# Altium schematic symbol library ECAR_LIBARY.SchLib: 24 symbols
Pins are listed as number, name and electrical type; pins without a type are passive.

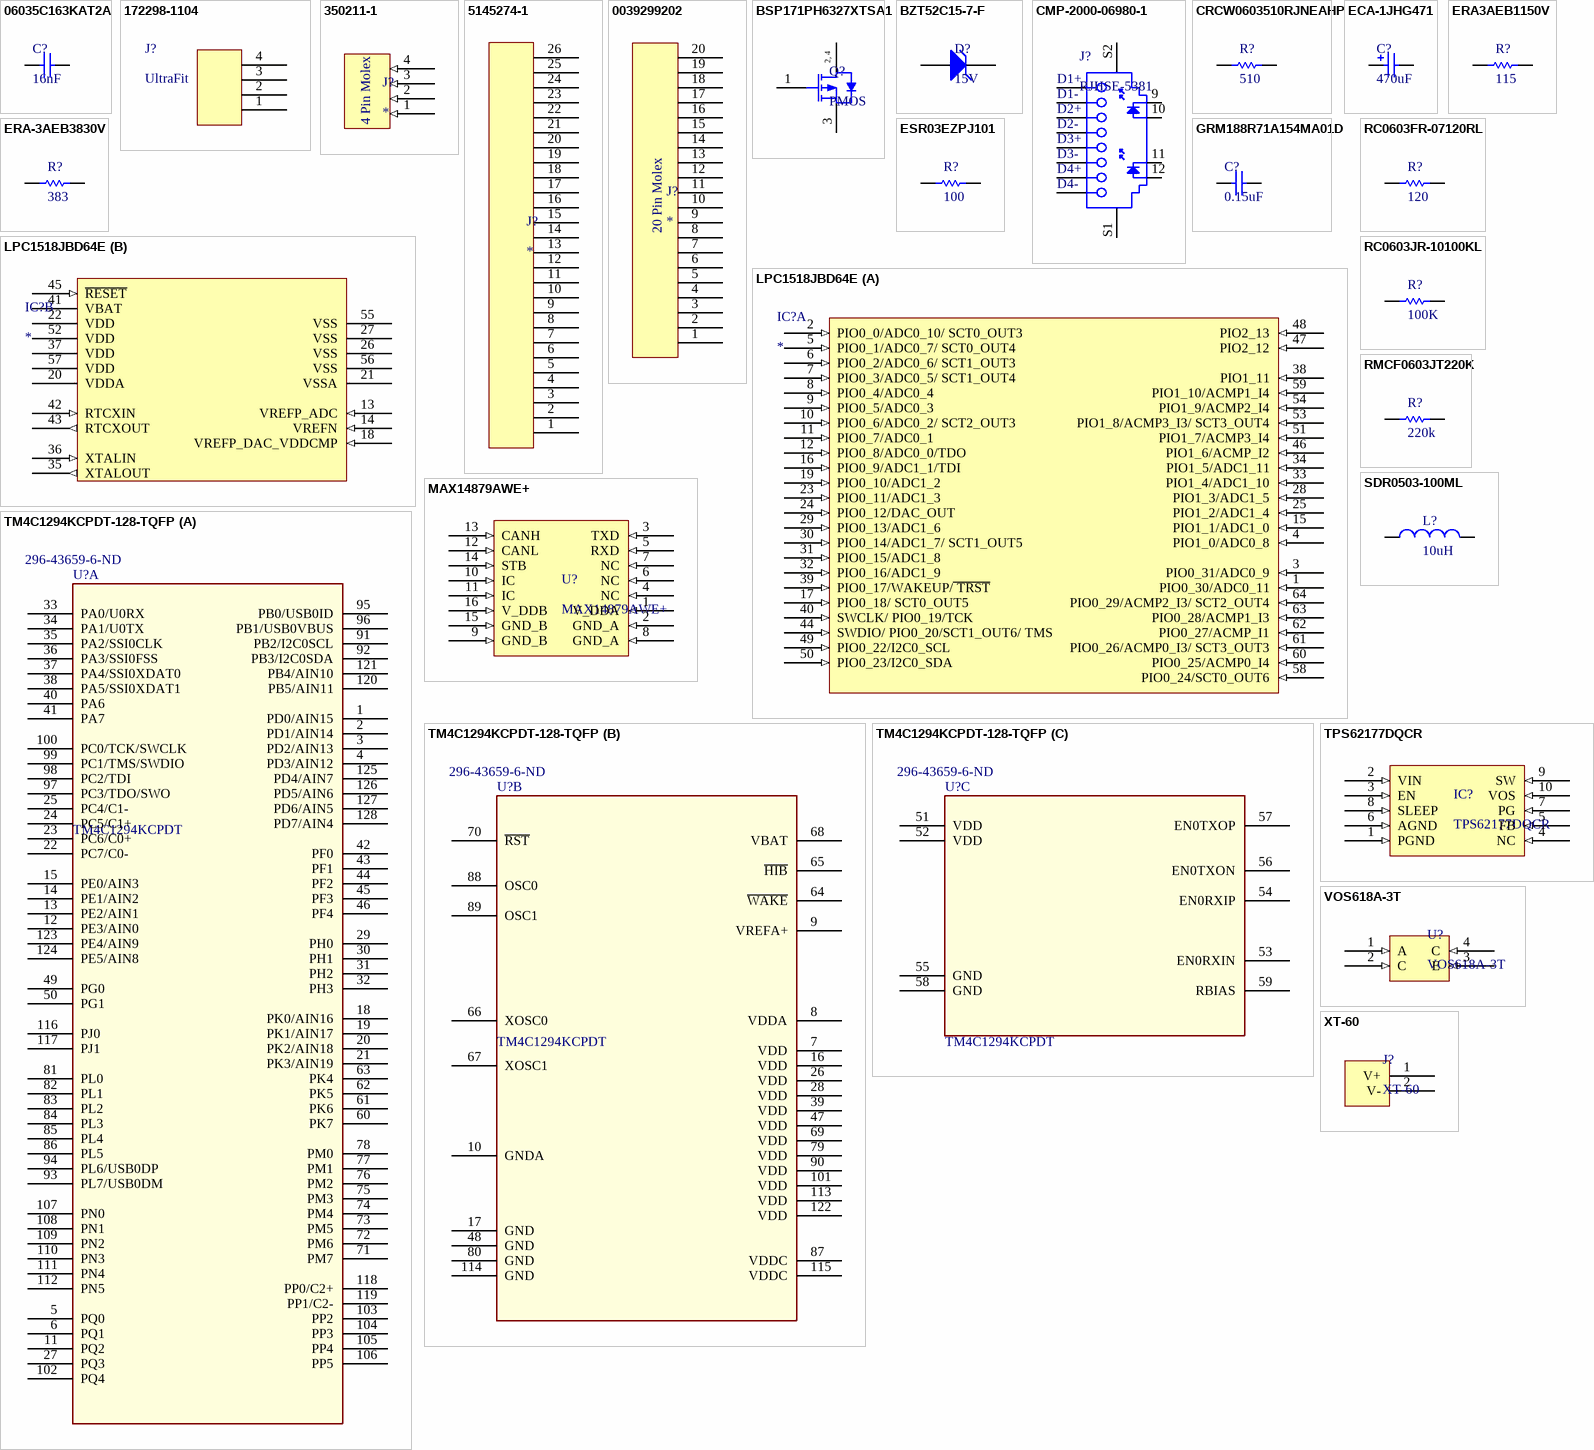
[diagram p0: symbols 06035C163KAT2A to XT-60]

## 06035C163KAT2A
designator C?, comment 16nF
Multilayer Ceramic Capacitors MLCC - SMD/SMT 50volts 0.016uF 10% X7R; Manufacturer: Kyocera AVX; Manufacturer Part Number: 06035C163KAT2A; Voltage Rating: 50V; Dissipation Factor: 2.5%; Supplier 1: Digi-Key; Stock 1: 10610; Pricing 1: 1=0.33, 10=0.224, 100=0.1271, 500=0.0897, 1000=0.07849 (USD); Mount: Surface Mount; Case/Package: 0603; Number of Pins: 2; Case Code (Metric): 1608; Case Code (Imperial): 0603; Min Operating Temperature: -55°C; Max Operating Temperature: 125°C; Package Quantity: 4000; Capacitance: 16nF; Tolerance: 10%; Packaging: Tape and Reel; Voltage Rating (DC): 50V; Dielectric: X7R; Termination: SMD/SMT; Length: 1.6mm; Width: 0.032inch; Thickness: 0.035inch; Depth: 0.81mm; Radiation Hardening: No; ComponentLink1URL: https://datasheet.ciiva.com/205/cx7r-205833.pdf; ComponentLink1Description: https://datasheet.ciiva.com/205/cx7r-205833.pdf; ComponentLink2URL: https://datasheet.ciiva.com/5418/cx7r-218113-5418475.pdf; ComponentLink2Description: https://datasheet.ciiva.com/5418/cx7r-218113-5418475.pdf; Supplier 2: Digi-Key
signal-integrity model Model Name (Model Description)
footprint 0603 CAP Medium
pins: 1, 2

## 172298-1104
designator J?, comment UltraFit
Conn; Rect; W-to-B; Header; Vert; 3.50mm Pitch; 2-Row; 4 Pos; Ultra-Fit; Tin Plate; Black; Manufacturer: Molex; Manufacturer Part Number: 172298-1104; Number of Positions: 4; Gender: Male; Connector Type: Male Pin; Pitch: 0.138inch; Row Spacing: 0.181inch; Supplier 1: Digi-Key; Stock 1: 3051; Pricing 1: 1=0.76, 10=0.708, 100=0.543, 500=0.4722, 1000=0.38957, 5000=0.34235, 10000=0.31874 (USD); Mount: Through Hole; Number of Pins: 4; Contact Plating: Nickel,Tin; Colour: Black; Contact Material: Copper Alloy; Packaging: Tray; Number of Rows: 2; Termination: Kinked Pin; Fastening Type: Latch; Number of Circuits: 4; Orientation: Vertical; Number of Contacts: 4; REACH SVHC: Unknown; ComponentLink1URL: http://www.alliedelec.com/images/products/datasheets/bm/MOLEX/70617668.pdf; ComponentLink1Description: http://www.alliedelec.com/images/products/datasheets/bm/MOLEX/70617668.pdf; ComponentLink2URL: https://www.molex.com/pdm_docs/sd/1722981104_sd.pdf; ComponentLink2Description: https://www.molex.com/pdm_docs/sd/1722981104_sd.pdf; ComponentLink3URL: http://www.farnell.com/datasheets/1944206.pdf; ComponentLink3Description: http://www.farnell.com/datasheets/1944206.pdf; ComponentLink4URL: http://www.farnell.com/datasheets/1955765.pdf; ComponentLink4Description: http://www.farnell.com/datasheets/1955765.pdf
footprint 1722981104
pins: 1, 2, 3, 4

## 350211-1
designator J?
CONN HEADER 4 POS TIN PCB; Manufacturer: TE Connectivity; Manufacturer Part Number: 350211-1; Current Rating: 13A; Voltage Rating: 250V; Gender: Male; Connector Type: Pin; Number of Poles: 4; Contact Resistance: 4mR; Mating Cycles: 50; Number of Ports: 1; Insulation Resistance: 500MR; Circuit Application: Power; Connector System: Wire-to-Board; Contact Retention: No (Without); Plating Thickness: 2.54um; Mating Alignment: Yes (With); PCB Mounting Orientation: Vertical; VDE Tested: No; Contact Current Rating: 12A; Pitch: 5.08mm; PCB Thickness: 1.57mm; Hole Diameter: 1.8mm; Approvals: CSA; Supplier 1: Digi-Key; Stock 1: 2882; Pricing 1: 1=1.12, 10=0.982, 100=0.8475, 500=0.69344, 1000=0.61638, 5000=0.53934, 10000=0.51237 (USD); Mount: Through Hole,PCB; Contact Plating: Tin; Contact Material: Bronze,Tin; Colour: Natural,Clear; Material: Nylon; Housing Material: Nylon; Number of Terminals: 4; Housing Colour: Natural; Min Operating Temperature: -40°C; Max Operating Temperature: 221°C; Packaging: Bag; Termination: Solder; Package Quantity: 100; Contact Gender: Male; Number of Rows: 1; Voltage Rating (AC): 250V; Max Voltage Rating (AC): 250V; Number of Positions: 4; Number of Contacts: 4; Number of Circuits: 4; Orientation: Straight; Mating Retention: Yes (With); Number of Power Positions: 4; Sealable: No (Without); Length: 25.4mm; Height: 8.26mm; Lead Pitch: 5.08mm; Width: 9.53mm; Contact Mating Length: 0.18inch; Depth: 9.65mm; Radiation Hardening: No; REACH SVHC: No SVHC; Lead Free: Lead Free; ELV: Compliant; Flammability Rating: UL94 V-2; ComponentLink1URL: https://datasheet.ciiva.com/1442/1698836-1442676.pdf; ComponentLink1Description: https://datasheet.ciiva.com/1442/1698836-1442676.pdf; ComponentLink2URL: https://datasheet.ciiva.com/14154/cs-82181-soft-shell-eng-14154757.pdf; ComponentLink2Description: https://datasheet.ciiva.com/14154/cs-82181-soft-shell-eng-14154757.pdf; ComponentLink3URL: https://datasheet.ciiva.com/19454/421358-19454101.pdf; ComponentLink3Description: https://datasheet.ciiva.com/19454/421358-19454101.pdf; ComponentLink4URL: https://datasheet.ciiva.com/15173/getdatasheetpartid-92383-15173751.pdf; ComponentLink4Description: https://datasheet.ciiva.com/15173/getdatasheetpartid-92383-15173751.pdf; ComponentLink5URL: https://datasheet.ciiva.com/3126/eng-cs-82181-softshell-standard-density-0508-3126153.pdf; ComponentLink5Description: https://datasheet.ciiva.com/3126/eng-cs-82181-softshell-standard-density-0508-3126153.pdf; ComponentLink6URL: https://datasheet.ciiva.com/11755/0900766b800c5727-11755181.pdf; ComponentLink6Description: https://datasheet.ciiva.com/11755/0900766b800c5727-11755181.pdf; ComponentLink7URL: https://datasheet.ciiva.com/25908/eng-cs-82181-softshell-standard-density-0508-25908477.pdf; ComponentLink7Description: https://datasheet.ciiva.com/25908/eng-cs-82181-softshell-standard-density-0508-25908477.pdf; ComponentLink8URL: https://datasheet.ciiva.com/30161/eng-cs-82181-softshell-standard-density-0508-30161246.pdf; ComponentLink8Description: https://datasheet.ciiva.com/30161/eng-cs-82181-softshell-standard-density-0508-30161246.pdf
footprint 350211-1
pins: 1 (in), 2 (in), 3 (in), 4 (in)
text: 4 Pin Molex

## 5145274-1
designator J?
Standard Card Edge Connectors CONN SEC II 13 POS 100C/L; Manufacturer: TE Connectivity; Manufacturer Part Number: 5145274-1; Underplate Material: Nickel; Number of Contacts: 26; Gender: Female; Connector Type: Socket; Circuit Application: Power; Connector System: Board-to-Board; Contact Retention: No (Without); Mating Alignment: Yes (With); PCB Mount Retention: With; PCB Mounting Orientation: Vertical; Contact Current Rating: 3A; Contact Resistance: 10mR; Max Voltage Rating (AC): 1kV; Pitch: 2.54mm; Row Spacing: 4.85mm; Supplier 1: Digi-Key; Stock 1: 1146; Pricing 1: 1=2.51, 10=2.279, 25=2.1392, 50=2.0464, 100=1.9533, 250=1.76728, 500=1.62776, 1000=1.39523, 2500=1.30221 (USD); Mount: Through Hole; Contact Plating: Tin,Gold; Contact Material: Bronze; Colour: Black; Housing Colour: Black; Insulation Material: Glass; Housing Material: Polyester; Min Operating Temperature: -55°C; Max Operating Temperature: 85°C; Number of Rows: 2; Termination: Solder; Package Quantity: 252; Packaging: Box; Number of Positions: 26; Orientation: Straight; Mating Retention: No (Without); Number of Power Positions: 26; PCB Mount Alignment: No (Without); Selectively Loaded: No (Without); Height: 15.24mm; ELV: Compliant; Flammability Rating: UL94 V-0; Lead Free: Lead Free; ComponentLink1URL: https://datasheet.ciiva.com/30109/5145274-1-30109552.pdf; ComponentLink1Description: https://datasheet.ciiva.com/30109/5145274-1-30109552.pdf; ComponentLink2URL: https://datasheet.ciiva.com/8066/1652760-8066969.pdf; ComponentLink2Description: https://datasheet.ciiva.com/8066/1652760-8066969.pdf; ComponentLink3URL: https://datasheet.ciiva.com/416/eng-cd-5145274-b-416554.pdf; ComponentLink3Description: https://datasheet.ciiva.com/416/eng-cd-5145274-b-416554.pdf
footprint 5145274-1
footprint 5145274-1 EDGE (PCB EDGE Version of 5145274-1)
pins: 1, 2, 3, 4, 5, 6, 7, 8, 9, 10, 11, 12, 13, 14, 15, 16, 17, 18, 19, 20, 21, 22, 23, 24, 25, 26

## 0039299202
designator J?
Conn Power HDR 20 POS 4.2mm Solder ST Thru-Hole 20 Terminal 1 Port Mini-Fit Jr™ Tray; Manufacturer: Molex; Manufacturer Part Number: 0039299202; Contact Resistance: 10mR; Number of Positions: 20; Max Voltage Rating (AC): 600V; Gender: Male; Number of Ports: 1; Connector Type: Male Pin; Row Spacing: 0.165inch; Supplier 1: Digi-Key; Stock 1: 2975; Pricing 1: 1=1.71, 10=1.548, 100=1.3268, 500=1.10566, 1000=0.9477, 5000=0.84029, 10000=0.82134 (USD); Mount: Through Hole; Contact Material: Brass; Contact Plating: Nickel,Tin; Colour: Natural; Housing Colour: Natural; Housing Material: Nylon; Number of Terminals: 20; Min Operating Temperature: -40°C; Max Operating Temperature: 105°C; Packaging: Tray; Number of Rows: 2; Termination: Solder; Number of Contacts: 20; Orientation: Straight; Fastening Type: Ramp; Pitch: 4.2mm; Depth: 11mm; ComponentLink1URL: https://datasheet.ciiva.com/6815/039299163-sd-6815664.pdf; ComponentLink1Description: https://datasheet.ciiva.com/6815/039299163-sd-6815664.pdf; ComponentLink2URL: https://datasheet.ciiva.com/26921/getdatasheetpartid-176544-26921974.pdf; ComponentLink2Description: https://datasheet.ciiva.com/26921/getdatasheetpartid-176544-26921974.pdf
pins: 1, 2, 3, 4, 5, 6, 7, 8, 9, 10, 11, 12, 13, 14, 15, 16, 17, 18, 19, 20
text: 20 Pin Molex

## BSP171PH6327XTSA1
designator Q?, comment PMOS
Trans MOSFET P-CH 60V 1.9A Automotive 4-Pin(3+Tab) SOT-223 T/R; Manufacturer: Infineon; Manufacturer Part Number: BSP171PH6327XTSA1; Rise Time: 25ns; Gate to Source Voltage (Vgs): 20V; Max Power Dissipation: 1.8W; Turn-Off Delay Time: 208ns; Input Capacitance: 460pF; Fall Time: 87ns; Drain to Source Voltage (Vdss): -60V; Rds On Max: 300mR; Number of Elements: 1; Element Configuration: Single; Supplier 1: Digi-Key; Stock 1: 10497; Pricing 1: 1=1.01, 10=0.881, 100=0.6796, 500=0.50342 (USD); Mount: Surface Mount; Case/Package: SOT-223; Number of Pins: 4; Contact Plating: Tin; Min Operating Temperature: -55°C; Max Operating Temperature: 150°C; Continuous Drain Current (ID): 1.9A; Packaging: Tape and Reel; Power Dissipation: 1.8W; Package Quantity: 1000; Drain to Source Resistance: 300mR; Drain to Source Breakdown Voltage: 60V; Max Dual Supply Voltage: -60V; Radiation Hardening: No; Lead Free: Lead Free; Halogen Free: Halogen Free; ComponentLink1URL: https://datasheet.ciiva.com/26924/getdatasheetpartid-767187-26924766.pdf; ComponentLink1Description: https://datasheet.ciiva.com/26924/getdatasheetpartid-767187-26924766.pdf
simulation model BSP171P_L0 (Model Description)
footprint SOT230P700X170-4N (SOT223, 4-Leads, Body 6.50x7.00mm (avg), Pitch 2.30mm, IPC Medium Density)
pins: 1 GATE, 2 DRAIN, 3 SOURCE, 4 DRAIN
text: 2, 4

## BZT52C15-7-F
designator D?, comment 15V
Diode Zener Single 15V 6% 370mW 2-Pin SOD-123 T/R; Manufacturer: Diodes; Manufacturer Part Number: BZT52C15-7-F; Max Power Dissipation: 500mW; Max Reverse Leakage Current: 100nA; Forward Voltage: 900mV; Impedance: 30R; Zener Current: 5mA; Output Current: 50mA; ESD Protection: No; Supplier 1: Digi-Key; Stock 1: 216369; Pricing 1: 1=0.24, 10=0.218, 100=0.1186, 500=0.07296, 1000=0.04975 (USD); Mount: Surface Mount; Number of Pins: 2; Weight: 0.000353oz; Contact Plating: Tin,Matte; Min Operating Temperature: -65°C; Max Operating Temperature: 150°C; Zener Voltage: 15V; Element Configuration: Single; Packaging: Tape and Reel; Package Quantity: 3000; Tolerance: 6%; Power Dissipation: 500mW; Voltage Tolerance: 6%; Working Voltage: 15V; Peak Reverse Current: 100nA; Test Current: 5mA; Termination: SMD/SMT; Power Rating: 500mW; Voltage Rating (DC): 15V; Length: 2.85mm; Height: 1.35mm; Width: 1.7mm; Radiation Hardening: No; REACH SVHC: No SVHC; Lead Free: Lead Free; ComponentLink1URL: https://datasheet.ciiva.com/4734/ds18004-73542-4734071.pdf; ComponentLink1Description: https://datasheet.ciiva.com/4734/ds18004-73542-4734071.pdf; ComponentLink2URL: https://datasheet.ciiva.com/15142/getdatasheetpartid-110099-15142730.pdf; ComponentLink2Description: https://datasheet.ciiva.com/15142/getdatasheetpartid-110099-15142730.pdf; ComponentLink3URL: https://datasheet.ciiva.com/22713/1670962-22713962.pdf; ComponentLink3Description: https://datasheet.ciiva.com/22713/1670962-22713962.pdf
simulation model DI_BZT52C15 (SYM=HZEN)
footprint SODFL370X135-2M (SODFL, 2-Leads, Body 1.55x3.70mm, IPC Low Density)
signal-integrity model Model Name (Model Description)
pins: 1 A, 2 K

## CMP-2000-06980-1
designator J?, comment RJHSE-5381
High Speed RJ45, Modular Jack, 8 Position, 8 Contacts, Shielded, with LEDs, -55 to 85 degC,12-Pin THD, RoHS, Tray; Manufacturer: Amphenol; Number of Positions/Contacts: 8p8c(RJ45,Ethernet); Number of Ports: 1; Catalog Drawings: RJ45SeriesRightAngle; PCN Design/Specification: MultipleSeriesCopper29/Jan/2009RJHSEShieldMaterial30/Jun/2015; Other Names: RJHSE5381; Online Catalog: RJHSESeries; Featured Product: ModularJacksProductSolutions; Tab Direction: Up; Shielding: Shielded,EMIFinger; LED Color: Yellow-Green; 3D Model: RJHSE538x.stpRJHSE538x.igs; Category: Connectors,Interconnects; Termination: Solder; Housing Material: Thermoplastic; Mounting Type: ThroughHole; Family: ModularConnectors-Jacks; Orientation: 90°Angle(Right); Features: BoardLock; Contact Material: PhosphorBronze; Mounting Technology: ThroughHole; Number of Rows: 1; Standard Package: 120; Ratings: -; Operating Temperature: -55°C~85°C; Series: RJHSE; Contact Finish: Gold; Package Reference: RJHSE-5381; Ingress Protection: -; Package Description: 12-Pin Through Hole Device, Body 16.51 x 15.75 mm; Contact Finish Thickness: 50µin(1.27µm); Datasheet URL: https://datasheet.ciiva.com/16481/rjhse538x-16481714.pdf; Datasheet Version: Rev. K, 04/2014; Connector Type: Jack; Manufacturer URL: http://www.amphenol.com/; Packaging: Tray
footprint AMPH-RJHSE-5381_V (THD, 12-Leads, Body 16.51x15.75mm)
pins: 1 TD+, 2 TCT, 3 TD-, 4 NC, 5 RD+, 6 RCT, 7 RD-, 8 GND, 9, 10, 11, 12, S1, S2
text: D1+; D1-; D2+; D2-; D3+; D3-; D4+; D4-

## CRCW0603510RJNEAHP
designator R?, comment 510
RES SMD 510 OHM 5% 1/4W 0603; Manufacturer: Vishay Dale; Manufacturer Part Number: CRCW0603510RJNEAHP; Resistance: 510R; Power Rating: 250mW; Temperature Coefficient: 200ppm/°C; Supplier 1: Digi-Key; Stock 1: 9727; Pricing 1: 1=0.17, 10=0.142, 100=0.0557, 1000=0.0233, 2500=0.02136 (USD); Mount: Surface Mount; Case/Package: 0603; Case Code (Metric): 1608; Case Code (Imperial): 0603; Contact Plating: Nickel,Tin; Min Operating Temperature: -55°C; Max Operating Temperature: 155°C; Tolerance: 5%; Packaging: Tape and Reel; Package Quantity: 5000; Composition: Thick Film; Number of Terminations: 2; Max Power Dissipation: 250mW; Length: 0.063inch; Height: 0.022inch; Width: 0.033inch; Lead Free: Lead Free; ComponentLink1URL: https://datasheet.ciiva.com/48524/crcwhpe3-48524633.pdf; ComponentLink1Description: https://datasheet.ciiva.com/48524/crcwhpe3-48524633.pdf; ComponentLink2URL: https://datasheet.ciiva.com/2575/crcwhpe3-2575517.pdf; ComponentLink2Description: https://datasheet.ciiva.com/2575/crcwhpe3-2575517.pdf
footprint RES 0603 MEDIUM (Chip Resistor, 2-Leads, Body 1.60x0.80mm, IPC Medium Density)
pins: 1, 2

## ECA-1JHG471
designator C?, comment 470uF
Cap Aluminum Lytic 470uF 63V 20% (12.5 X 20mm) Radial 5mm 640mA 2000h 105C Bulk; Manufacturer: Panasonic; Manufacturer Part Number: ECA-1JHG471; Life (Hours): 2000Hour; Lead/Base Style: Straight; Polarity: Polar; Leakage Current: 3uA; Dissipation Factor: 0.1%; Lead Diameter: 0.6mm; Supplier 1: Digi-Key; Stock 1: 12555; Pricing 1: 1=0.88, 10=0.67, 100=0.4792, 500=0.371, 1000=0.31948, 2500=0.29887, 5000=0.28341 (USD); Mount: Through Hole,PCB; Case/Package: Radial; Contact Plating: Tin; Min Operating Temperature: -55°C; Max Operating Temperature: 105°C; Capacitance: 470uF; Tolerance: 20%; Ripple Current: 640mA; Termination: Radial; Voltage Rating (DC): 63V; Packaging: Bulk; Package Quantity: 200; Voltage Rating: 63V; Voltage: 63V; Diameter: 12.5mm; Length: 20mm; Height: 20mm; Lead Pitch: 5mm; Height - Seated (Max): 0.866inch; Radiation Hardening: No; REACH SVHC: No SVHC; ComponentLink1URL: https://datasheet.ciiva.com/14590/70067776-14590006.pdf; ComponentLink1Description: https://datasheet.ciiva.com/14590/70067776-14590006.pdf; ComponentLink2URL: https://datasheet.ciiva.com/17356/aba0000ce26-17356313.pdf; ComponentLink2Description: https://datasheet.ciiva.com/17356/aba0000ce26-17356313.pdf; ComponentLink3URL: https://datasheet.ciiva.com/48521/radial-nhg-eng-tds-48521993.pdf; ComponentLink3Description: https://datasheet.ciiva.com/48521/radial-nhg-eng-tds-48521993.pdf; ComponentLink4URL: https://datasheet.ciiva.com/30116/8aba0000ce26-30116426.pdf; ComponentLink4Description: https://datasheet.ciiva.com/30116/8aba0000ce26-30116426.pdf; ComponentLink5URL: https://datasheet.ciiva.com/2984/aba0000ce26-2984364.pdf; ComponentLink5Description: https://datasheet.ciiva.com/2984/aba0000ce26-2984364.pdf; ComponentLink6URL: https://datasheet.ciiva.com/11783/0900766b800301b8-11783820.pdf; ComponentLink6Description: https://datasheet.ciiva.com/11783/0900766b800301b8-11783820.pdf; ComponentLink7URL: https://datasheet.ciiva.com/43485/1504317-43485276.pdf; ComponentLink7Description: https://datasheet.ciiva.com/43485/1504317-43485276.pdf
simulation model Model Name (Model Description)
signal-integrity model Model Name (Model Description)
footprint ECA1JHG471 (1)
pins: 1, 2

## ERA3AEB1150V
designator R?, comment 115
RESISTOR, 115R, 0603, 0.1%, 0.1W; Manufacturer: Panasonic; Manufacturer Part Number: ERA3AEB1150V; Temperature Coefficient: 25ppm/°C; Power Rating: 100mW; Voltage Rating: 75V; Supplier 1: Digi-Key; Stock 1: 9304; Pricing 1: 1=0.35, 10=0.3, 100=0.1172, 1000=0.04906, 2500=0.04498 (USD); Mount: Surface Mount; Case/Package: 0603; Number of Pins: 2; Contact Plating: Tin; Case Code (Imperial): 0603; Case Code (Metric): 1608; Min Operating Temperature: -55°C; Max Operating Temperature: 155°C; Resistance: 115R; Tolerance: 0.1%; Composition: Metal Film,Thin Film; Package Quantity: 1; Packaging: Tape and Reel; Number of Terminations: 2; Military Standard: Not; Max Power Dissipation: 100mW; Voltage Rating (DC): 75V; Length: 1.6mm; Height: 0.45mm; Width: 0.8mm; Depth: 0.8mm; Radiation Hardening: No; Lead Free: Lead Free; ComponentLink1URL: https://datasheet.ciiva.com/24023/aoa0000ce26-197354-24023398.pdf; ComponentLink1Description: https://datasheet.ciiva.com/24023/aoa0000ce26-197354-24023398.pdf; ComponentLink2URL: https://datasheet.ciiva.com/5734/485442-5734535.pdf; ComponentLink2Description: https://datasheet.ciiva.com/5734/485442-5734535.pdf; ComponentLink3URL: https://datasheet.ciiva.com/9186/aoa0000ce26-9186283.pdf; ComponentLink3Description: https://datasheet.ciiva.com/9186/aoa0000ce26-9186283.pdf; ComponentLink4URL: https://datasheet.ciiva.com/11810/0900766b80eb1d8c-11810204.pdf; ComponentLink4Description: https://datasheet.ciiva.com/11810/0900766b80eb1d8c-11810204.pdf; ComponentLink5URL: https://datasheet.ciiva.com/30216/54aoa0000ce26-30216556.pdf; ComponentLink5Description: https://datasheet.ciiva.com/30216/54aoa0000ce26-30216556.pdf; ComponentLink6URL: https://datasheet.ciiva.com/5998/485442-5998765.pdf; ComponentLink6Description: https://datasheet.ciiva.com/5998/485442-5998765.pdf; ComponentLink7URL: https://datasheet.ciiva.com/7676/485442-7676845.pdf; ComponentLink7Description: https://datasheet.ciiva.com/7676/485442-7676845.pdf; ComponentLink8URL: https://datasheet.ciiva.com/17207/aoa0000ce26-17207853.pdf; ComponentLink8Description: https://datasheet.ciiva.com/17207/aoa0000ce26-17207853.pdf; ComponentLink9URL: https://datasheet.ciiva.com/5998/485442-5998766.pdf; ComponentLink9Description: https://datasheet.ciiva.com/5998/485442-5998766.pdf; ComponentLink10URL: https://datasheet.ciiva.com/5998/485442-5998767.pdf; ComponentLink10Description: https://datasheet.ciiva.com/5998/485442-5998767.pdf
footprint RES 0603 MEDIUM (Chip Resistor, 2-Leads, Body 1.60x0.80mm, IPC Medium Density)
simulation model Model Name (Model Description)
signal-integrity model Model Name (Model Description)
pins: 1, 2

## ERA-3AEB3830V
designator R?, comment 383
PANASONIC ELECTRONIC COMPONENTS         ERA3AEB3830V             SMD Chip Resistor, Thin Film, 383 ohm, 75 V, 0603 [1608 Metric], 100 mW,  0.1%, ERA Series; Manufacturer Part Number: ERA-3AEB3830V; Resistance: 383R; Temperature Coefficient: 25ppm/°C; Power Rating: 100mW; Voltage Rating: 75V; Supplier 1: Digi-Key; Manufacturer: Panasonic; Stock 1: 8867; Pricing 1: 1=0.35, 10=0.3, 100=0.1172, 1000=0.04906, 2500=0.04498 (USD); Mount: Surface Mount; Case/Package: 0603; Number of Pins: 2; Contact Plating: Tin; Case Code (Metric): 1608; Case Code (Imperial): 0603; Min Operating Temperature: -55°C; Max Operating Temperature: 155°C; Tolerance: 0.1%; Composition: Metal Film,Thin Film; Packaging: Tape and Reel; Package Quantity: 1; Number of Terminations: 2; Max Power Dissipation: 100mW; Voltage Rating (DC): 75V; Length: 1.6mm; Height: 0.45mm; Width: 0.8mm; Depth: 0.8mm; Radiation Hardening: No; REACH SVHC: No SVHC; Lead Free: Lead Free; ComponentLink1URL: https://datasheet.ciiva.com/11810/0900766b80eb1d8c-11810304.pdf; ComponentLink1Description: https://datasheet.ciiva.com/11810/0900766b80eb1d8c-11810304.pdf; ComponentLink2URL: https://datasheet.ciiva.com/17205/aoa0000ce26-17205990.pdf; ComponentLink2Description: https://datasheet.ciiva.com/17205/aoa0000ce26-17205990.pdf; ComponentLink3URL: https://datasheet.ciiva.com/45847/5aoa0000ce26-45847689.pdf; ComponentLink3Description: https://datasheet.ciiva.com/45847/5aoa0000ce26-45847689.pdf; ComponentLink4URL: https://datasheet.ciiva.com/46389/485442-46389516.pdf; ComponentLink4Description: https://datasheet.ciiva.com/46389/485442-46389516.pdf; ComponentLink5URL: https://datasheet.ciiva.com/43457/485442-43457038.pdf; ComponentLink5Description: https://datasheet.ciiva.com/43457/485442-43457038.pdf; ComponentLink6URL: https://datasheet.ciiva.com/46660/485442-46660734.pdf; ComponentLink6Description: https://datasheet.ciiva.com/46660/485442-46660734.pdf
footprint RES 0603 MEDIUM (Chip Resistor, 2-Leads, Body 1.60x0.80mm, IPC Medium Density)
simulation model Model Name (Model Description)
signal-integrity model Model Name (Model Description)
pins: 1, 2

## ESR03EZPJ101
designator R?, comment 100
Anti Surge Chip Resistor 0603 Case 100 Ohms 5% Tolerance 200 PPM; Manufacturer: Rohm; Manufacturer Part Number: ESR03EZPJ101; Resistance: 100R; Temperature Coefficient: 200ppm/°C; Power Rating: 200mW; Supplier 1: Digi-Key; Stock 1: 152963; Pricing 1: 1=0.1, 10=0.087, 100=0.0333, 1000=0.01464, 2500=0.01264 (USD); Case/Package: 0603; Tolerance: 5%; Lead Free: Lead Free; ComponentLink1URL: https://datasheet.ciiva.com/16218/esr-16218543.pdf; ComponentLink1Description: https://datasheet.ciiva.com/16218/esr-16218543.pdf
footprint RES 0603 MEDIUM (Chip Resistor, 2-Leads, Body 1.60x0.80mm, IPC Medium Density)
simulation model Resistor
signal-integrity model Model Name (Model Description)
pins: 1, 2

## GRM188R71A154MA01D
designator C?, comment 0.15uF
CAP CER 0.15UF 10V X7R 0603; Manufacturer: Murata; Manufacturer Part Number: GRM188R71A154MA01D; Capacitance: 150nF; Tolerance: 20%; Supplier 1: Digi-Key; Stock 1: 5775; Pricing 1: 1=0.15, 10=0.105, 100=0.0494, 500=0.03466, 1000=0.02869 (USD); Mount: Surface Mount; Case/Package: 0603; Case Code (Imperial): 0603; Case Code (Metric): 1608; Min Operating Temperature: -55°C; Max Operating Temperature: 125°C; Voltage Rating: 10V; Voltage Rating (DC): 10V; Packaging: Tape and Reel; Package Quantity: 1; Dielectric: X7R; Termination: SMD/SMT; Length: 1.6mm; Height: 0.8mm; Width: 0.8mm; Thickness: 0.035inch; Depth: 0.8mm; Radiation Hardening: No; Lead Free: Lead Free; ComponentLink1URL: https://datasheet.ciiva.com/5420/product-5420080.pdf; ComponentLink1Description: https://datasheet.ciiva.com/5420/product-5420080.pdf; ComponentLink2URL: https://datasheet.ciiva.com/161/partnumbering-e-01-161829.pdf; ComponentLink2Description: https://datasheet.ciiva.com/161/partnumbering-e-01-161829.pdf; ComponentLink3URL: https://datasheet.ciiva.com/161/partnumbering-e-01-161830.pdf; ComponentLink3Description: https://datasheet.ciiva.com/161/partnumbering-e-01-161830.pdf; ComponentLink4URL: https://datasheet.ciiva.com/161/partnumbering-e-01-161831.pdf; ComponentLink4Description: https://datasheet.ciiva.com/161/partnumbering-e-01-161831.pdf
footprint 0603 CAP Medium
simulation model Model Name (Model Description)
signal-integrity model Model Name (Model Description)
pins: 1, 2

## LPC1518JBD64E
designator IC?
NXP         LPC1518JBD64E            MICROCONTROLLER MCU, 32 BIT, CORTEX-M3, 72MHZ, LQFP-64; Manufacturer: NXP Semiconductors; Min Supply Voltage: 2.4V; Max Supply Voltage: 3.6V; RAM Size: 20KB; Max Power Dissipation: 1.5W; Interface: I2C,SPI,CAN,UART,USART; Number of I/Os: 46; Number of Timers/Counters: 4; Oscillator Type: Internal; Data Bus Width: 32b; Watchdog Timer: Yes; Memory Type: FLASH; Memory Size: 128KB; Number of ADC Channels: 24; Peripherals: Brown-out Detect/Reset,POR,PWM,WDT,DMA; Core Architecture: ARM; Operating Supply Voltage: 3.3V; Supplier 1: Digi-Key; Manufacturer Part Number: LPC1518JBD64E; Stock 1: 4797; Pricing 1: 1=6.03, 10=5.415, 100=4.4363, 500=3.7765, 1000=3.185 (USD); Mount: Surface Mount; Case/Package: LQFP; Number of Pins: 64; Weight: 12.224192oz; Min Operating Temperature: -40°C; Max Operating Temperature: 105°C; Packaging: Tray; Package Quantity: 160; Frequency: 72MHz; Number of Programmable I/O: 46; Max Frequency: 72MHz; Radiation Hardening: No; REACH SVHC: No SVHC; ComponentLink1URL: http://www.farnell.com/datasheets/1802143.pdf; ComponentLink1Description: http://www.farnell.com/datasheets/1802143.pdf; ComponentLink2URL: https://produktinfo.conrad.com/datenblaetter/1100000-1199999/001113856-da-01-en-IC_MCU_32BIT_A_LPC1518JBD64E_LQFP_64_NXP.pdf; ComponentLink2Description: https://produktinfo.conrad.com/datenblaetter/1100000-1199999/001113856-da-01-en-IC_MCU_32BIT_A_LPC1518JBD64E_LQFP_64_NXP.pdf; ComponentLink3URL: http://www.mouser.com/ds/2/302/LPC15XX-841343.pdf; ComponentLink3Description: http://www.mouser.com/ds/2/302/LPC15XX-841343.pdf; ComponentLink4URL: http://www.nxp.com/products/microcontrollers/cortex_m3/lpc1500/LPC1518JBD100.html; ComponentLink4Description: http://www.nxp.com/products/microcontrollers/cortex_m3/lpc1500/LPC1518JBD100.html
footprint TSQFP50P1200X1200X160-64N (TSQFP, 64-Leads, Body 10.00x10.00mm, Pitch 0.50mm, IPC Medium Density)
ibis LPC15xxJBD64 (Model Description)
part A pins: 1 PIO0_30/ADC0_11 (in), 2 PIO0_0/ADC0_10/ SCT0_OUT3 (in), 3 PIO0_31/ADC0_9 (in), 4 PIO1_0/ADC0_8 (in), 5 PIO0_1/ADC0_7/ SCT0_OUT4 (in), 6 PIO0_2/ADC0_6/ SCT1_OUT3 (in), 7 PIO0_3/ADC0_5/ SCT1_OUT4 (in), 8 PIO0_4/ADC0_4 (in), 9 PIO0_5/ADC0_3 (in), 10 PIO0_6/ADC0_2/ SCT2_OUT3 (in), 11 PIO0_7/ADC0_1 (in), 12 PIO0_8/ADC0_0/TDO (in), 15 PIO1_1/ADC1_0 (in), 16 PIO0_9/ADC1_1/TDI (in), 17 PIO0_18/ SCT0_OUT5 (in), 19 PIO0_10/ADC1_2 (in), 23 PIO0_11/ADC1_3 (in), 24 PIO0_12/DAC_OUT (in), 25 PIO1_2/ADC1_4 (in), 28 PIO1_3/ADC1_5 (in), 29 PIO0_13/ADC1_6 (in), 30 PIO0_14/ADC1_7/ SCT1_OUT5 (in), 31 PIO0_15/ADC1_8 (in), 32 PIO0_16/ADC1_9 (in), 33 PIO1_4/ADC1_10 (in), 34 PIO1_5/ADC1_11 (in), 38 PIO1_11 (in), 39 PIO0_17/WAKEUP/~{ TRST} (in), 40 SWCLK/ PIO0_19/TCK (in), 44 SWDIO/ PIO0_20/SCT1_OUT6/ TMS (in), 46 PIO1_6/ACMP_I2 (in), 47 PIO2_12 (in), 48 PIO2_13 (in), 49 PIO0_22/I2C0_SCL (in), 50 PIO0_23/I2C0_SDA (in), 51 PIO1_7/ACMP3_I4 (in), 53 PIO1_8/ACMP3_I3/ SCT3_OUT4 (in), 54 PIO1_9/ACMP2_I4 (in), 58 PIO0_24/SCT0_OUT6 (in), 59 PIO1_10/ACMP1_I4 (in), 60 PIO0_25/ACMP0_I4 (in), 61 PIO0_26/ACMP0_I3/ SCT3_OUT3 (in), 62 PIO0_27/ACMP_I1 (in), 63 PIO0_28/ACMP1_I3 (in), 64 PIO0_29/ACMP2_I3/ SCT2_OUT4 (in)
part B pins: 13 VREFP_ADC (in), 14 VREFN (in), 18 VREFP_DAC_VDDCMP (in), 20 VDDA, 21 VSSA (power), 22 VDD (power), 26 VSS (power), 27 VSS (power), 35 XTALOUT (out), 36 XTALIN (in), 37 VDD (power), 41 VBAT (power), 42 RTCXIN (in), 43 RTCXOUT (out), 45 ~{RESET} (in), 52 VDD (power), 55 VSS (power), 56 VSS (power), 57 VDD (power)

## MAX14879AWE+
designator U?
Manufacturer: Maxim; Supplier 1: Digi-Key; Manufacturer Part Number: MAX14879AWE+; Stock 1: 161; Pricing 1: 1=3.56 (USD)
footprint SOIC127P1030X265-16N (SOIC, 16-Leads, Body 10.30x7.50mm, Pitch 1.27mm, IPC Medium Density)
pins: 1 V_DDA (in), 2 GND_A (in), 3 TXD (in), 4 NC (in), 5 RXD (in), 6 NC (in), 7 NC (in), 8 GND_A (in), 9 GND_B (in), 10 IC (in), 11 IC (in), 12 CANL (in), 13 CANH (in), 14 STB (in), 15 GND_B (in), 16 V_DDB (in)

## RC0603FR-07120RL
designator R?, comment 120
RES SMD 120 OHM 1% 1/10W 0603; Manufacturer: Yageo; Manufacturer Part Number: RC0603FR-07120RL; Resistance: 120R; Temperature Coefficient: 100ppm/°C; Voltage Rating (DC): 50V; Power Rating: 100mW; Supplier 1: Digi-Key; Stock 1: 1491778; Pricing 1: 1=0.1, 10=0.015, 100=0.006, 1000=0.00268, 2500=0.00233 (USD); Case/Package: 0603; Number of Pins: 2; Case Code (Metric): 1608; Case Code (Imperial): 0603; Min Operating Temperature: -55°C; Max Operating Temperature: 155°C; Tolerance: 1%; Packaging: Tape and Reel; Composition: Thick Film; Voltage Rating: 50V; Package Quantity: 1; Number of Terminations: 2; Termination: SMD/SMT; Military Standard: Not; Max Power Dissipation: 100mW; Length: 1.6mm; Height: 0.022inch; Width: 0.031inch; Depth: 0.8mm; REACH SVHC: No SVHC; Lead Free: Lead Free; ComponentLink1URL: https://datasheet.ciiva.com/11808/0900766b80f96399-11808756.pdf; ComponentLink1Description: https://datasheet.ciiva.com/11808/0900766b80f96399-11808756.pdf; ComponentLink2URL: https://datasheet.ciiva.com/2553/pyu-r-int-thick-7-2553512.pdf; ComponentLink2Description: https://datasheet.ciiva.com/2553/pyu-r-int-thick-7-2553512.pdf; ComponentLink3URL: https://datasheet.ciiva.com/7746/443971-7746248.pdf; ComponentLink3Description: https://datasheet.ciiva.com/7746/443971-7746248.pdf; ComponentLink4URL: https://datasheet.ciiva.com/2553/pyu-r-int-thick-7-2553513.pdf; ComponentLink4Description: https://datasheet.ciiva.com/2553/pyu-r-int-thick-7-2553513.pdf; ComponentLink5URL: https://datasheet.ciiva.com/7746/443971-7746249.pdf; ComponentLink5Description: https://datasheet.ciiva.com/7746/443971-7746249.pdf; ComponentLink6URL: https://datasheet.ciiva.com/2553/pyu-r-int-thick-7-2553514.pdf; ComponentLink6Description: https://datasheet.ciiva.com/2553/pyu-r-int-thick-7-2553514.pdf; ComponentLink7URL: https://datasheet.ciiva.com/46395/443971-46395021.pdf; ComponentLink7Description: https://datasheet.ciiva.com/46395/443971-46395021.pdf
footprint RES 0603 MEDIUM (Chip Resistor, 2-Leads, Body 1.60x0.80mm, IPC Medium Density)
simulation model Model Name (Model Description)
signal-integrity model Model Name (Model Description)
pins: 1, 2

## RC0603JR-10100KL
designator R?, comment 100K
YAGEO RC0603JR-10100KL RES, THICK FILM, 100K, 5%, 0.1W, 0603; Resistance: 100kR; Temperature Coefficient: 100ppm/°C; Power Rating: 100mW; Voltage Rating: 50V; Supplier 1: Digi-Key; Manufacturer: Yageo; Manufacturer Part Number: RC0603JR-10100KL; Stock 1: 53732; Pricing 1: 1=0.1, 10=0.011, 100=0.0046, 1000=0.00207, 2500=0.0018, 5000=0.00149 (USD); Case/Package: 0603; Number of Pins: 2; Contact Plating: Tin,Matte; Case Code (Imperial): 0603; Case Code (Metric): 1608; Min Operating Temperature: -55°C; Max Operating Temperature: 155°C; Tolerance: 5%; Composition: Thick Film; Packaging: Tape and Reel; Number of Terminations: 2; Termination: SMD/SMT; Package Quantity: 10000; Military Standard: Not; Max Power Dissipation: 100mW; Voltage Rating (DC): 50V; Length: 1.6mm; Height: 0.022inch; Width: 0.031inch; Depth: 0.8mm; Radiation Hardening: No; REACH SVHC: No SVHC; ComponentLink1URL: https://datasheet.ciiva.com/12561/rc0603-272842-12561162.pdf; ComponentLink1Description: https://datasheet.ciiva.com/12561/rc0603-272842-12561162.pdf; ComponentLink2URL: https://datasheet.ciiva.com/15189/getdatasheetpartid-326545-15189883.pdf; ComponentLink2Description: https://datasheet.ciiva.com/15189/getdatasheetpartid-326545-15189883.pdf
simulation model Model Name (Model Description)
signal-integrity model Model Name (Model Description)
footprint RES 0603 MEDIUM (Chip Resistor, 2-Leads, Body 1.60x0.80mm, IPC Medium Density)
pins: 1, 2

## RMCF0603JT220K
designator R?, comment 220k
Res Thick Film 0603 220K Ohm 5% 1/10W ±200ppm/C Molded SMD Paper T/R; Manufacturer: Stackpole Electronics; Manufacturer Part Number: RMCF0603JT220K; Resistance: 220kR; Power Rating: 100mW; Temperature Coefficient: 100ppm/°C; Supplier 1: Digi-Key; Stock 1: 135601; Pricing 1: 1=0.1, 10=0.013, 100=0.0051, 1000=0.0023, 2500=0.002 (USD); Mount: Surface Mount; Case/Package: 0603; Case Code (Metric): 1608; Case Code (Imperial): 0603; Contact Plating: Tin,Matte; Min Operating Temperature: -55°C; Max Operating Temperature: 155°C; Tolerance: 5%; Packaging: Tape and Reel; Composition: Thick Film; Number of Terminations: 2; Max Power Dissipation: 100mW; Length: 0.061inch; Height: 0.022inch; Width: 0.031inch; Radiation Hardening: No; Lead Free: Lead Free; ComponentLink1URL: http://components.arrow.com/part/dataview/40962145S9332741N1174; ComponentLink1Description: http://components.arrow.com/part/dataview/40962145S9332741N1174; ComponentLink2URL: https://www.seielect.com/Catalog/SEI-RMCF_RMCP.pdf; ComponentLink2Description: https://www.seielect.com/Catalog/SEI-RMCF_RMCP.pdf; ComponentLink3URL: http://www.seielect.com/catalog/sei-rmc.pdf; ComponentLink3Description: http://www.seielect.com/catalog/sei-rmc.pdf
footprint RES 0603 MEDIUM (Chip Resistor, 2-Leads, Body 1.60x0.80mm, IPC Medium Density)
simulation model Model Name (Model Description)
signal-integrity model Model Name (Model Description)
pins: 1, 2

## SDR0503-100ML
designator L?, comment 10uH
Inductor Power Wirewound 10uH 20% 1KHz 10Q-Factor Ferrite 1.3A 130mOhm DCR T/R; Manufacturer: Bourns; Manufacturer Part Number: SDR0503-100ML; DC Resistance (DCR): 130mR; Q Factor: 10; Self Resonant Frequency: 30MHz; Saturation Current: 1.6A; Shielding: Unshielded; Current: 330mA; Supplier 1: Digi-Key; Stock 1: 18052; Pricing 1: 1=0.58, 10=0.507, 100=0.3623 (USD); Mount: Surface Mount; Case/Package: Nonstandard; Number of Pins: 2; Core Material: Ferrite; Min Operating Temperature: -40°C; Max Operating Temperature: 125°C; Tolerance: 20%; Inductance: 10uh; Max DC Current: 1.3A; Inductance Tolerance: 20%; Packaging: Tape and Reel; Package Quantity: 500; Current Rating: 1.3A; Resistance: 130MR; Composition: Wirewound; Test Frequency: 1kHz; Termination: SMD/SMT; RMS Current (Irms): 1.3A; DC Current: 1.3A; Military Standard: Not; Length: 0.197inch; Height: 3mm; Depth: 5.1mm; Width: 0.189inch; Height - Seated (Max): 0.13inch; Radiation Hardening: No; REACH SVHC: No SVHC; ComponentLink1URL: https://datasheet.ciiva.com/8517/sdr0503-8517751.pdf; ComponentLink1Description: https://datasheet.ciiva.com/8517/sdr0503-8517751.pdf; ComponentLink2URL: https://datasheet.ciiva.com/16940/70153506-16940649.pdf; ComponentLink2Description: https://datasheet.ciiva.com/16940/70153506-16940649.pdf; ComponentLink3URL: https://datasheet.ciiva.com/3082/sdr0503-3082266.pdf; ComponentLink3Description: https://datasheet.ciiva.com/3082/sdr0503-3082266.pdf; ComponentLink4URL: https://datasheet.ciiva.com/6703/sdr0503-6703661.pdf; ComponentLink4Description: https://datasheet.ciiva.com/6703/sdr0503-6703661.pdf; ComponentLink5URL: https://datasheet.ciiva.com/17286/sdr0503-17286509.pdf; ComponentLink5Description: https://datasheet.ciiva.com/17286/sdr0503-17286509.pdf; ComponentLink6URL: https://datasheet.ciiva.com/6703/sdr0503-6703663.pdf; ComponentLink6Description: https://datasheet.ciiva.com/6703/sdr0503-6703663.pdf
footprint INDP5048X33L (Precision Wire Wound Inductor, 2-Leads, Body 5.00x4.80mm, IPC High Density)
simulation model Model Name (Model Description)
signal-integrity model Model Name (Model Description)
pins: 1, 2

## TM4C1294KCPDT-128-TQFP
designator U?, comment TM4C1294KCPDT  Supplier Part Number 1: 296-43659-6-ND
Manufacturer: Texas Instruments; Manufacturer Part Number: TM4C1294KCPDTI3R; RAM Size: 256KB; Max Power Dissipation: 904mW; Interface: I2C,SPI,USB,CAN,Ethernet,IrDA,UART,USART,EBI/EMI; Number of I/Os: 90; Number of Timers/Counters: 8; Frequency: 120MHz; Oscillator Type: Internal; Data Bus Width: 32b; Watchdog Timer: Yes; Memory Type: FLASH; Memory Size: 512KB; Number of A/D Converters: 20; Number of Bits: 12; Peripherals: Brown-out Detect/Reset,POR,PWM,WDT,DMA; Core Architecture: ARM; Supplier 1: Digi-Key; Stock 1: 790; Pricing 1: 1=12.98, 10=11.931, 100=10.0768, 500=8.96398 (USD); Mount: Surface Mount; Case/Package: TQFP; Number of Pins: 128; Contact Plating: Nickel,Gold; Min Operating Temperature: -40°C; Max Operating Temperature: 85°C; Packaging: Tape and Reel; Number of Programmable I/O: 90; Max Frequency: 120MHz; Number of UART Channels: 8; Number of ADC Channels: 20; Number of GPIO: 90; Lead Free: Lead Free; ComponentLink1URL: http://www.ti.com/general/docs/lit/getliterature.tsp?genericPartNumber=TM4C1294KCPDT&&fileType=pdf; ComponentLink1Description: http://www.ti.com/general/docs/lit/getliterature.tsp?genericPartNumber=TM4C1294KCPDT&&fileType=pdf; ComponentLink2URL: http://www.ti.com/lit/pdf/spmz850; ComponentLink2Description: http://www.ti.com/lit/pdf/spmz850; ComponentLink3URL: http://www.ti.com/lit/gpn/tm4c1294kcpdt; ComponentLink3Description: http://www.ti.com/lit/gpn/tm4c1294kcpdt
footprint TSQFP40P1600X1600X120-128N (TSQFP, 128-Leads, Body 14.00x14.00mm, Pitch 0.40mm, IPC Medium Density)
ibis TM4C1294KCPDT (Model Description)
part A pins: 1 PD0/AIN15, 2 PD1/AIN14, 3 PD2/AIN13, 4 PD3/AIN12, 5 PQ0, 6 PQ1, 11 PQ2, 12 PE3/AIN0, 13 PE2/AIN1, 14 PE1/AIN2, 15 PE0/AIN3, 18 PK0/AIN16, 19 PK1/AIN17, 20 PK2/AIN18, 21 PK3/AIN19, 22 PC7/C0-, 23 PC6/C0+, 24 PC5/C1+, 25 PC4/C1-, 27 PQ3, 29 PH0, 30 PH1, 31 PH2, 32 PH3, 33 PA0/U0RX, 34 PA1/U0TX, 35 PA2/SSI0CLK, 36 PA3/SSI0FSS, 37 PA4/SSI0XDAT0, 38 PA5/SSI0XDAT1, 40 PA6, 41 PA7, 42 PF0, 43 PF1, 44 PF2, 45 PF3, 46 PF4, 49 PG0, 50 PG1, 60 PK7, 61 PK6, 62 PK5, 63 PK4, 71 PM7, 72 PM6, 73 PM5, 74 PM4, 75 PM3, 76 PM2, 77 PM1, 78 PM0, 81 PL0, 82 PL1, 83 PL2, 84 PL3, 85 PL4, 86 PL5, 91 PB2/I2C0SCL, 92 PB3/I2C0SDA, 93 PL7/USB0DM, 94 PL6/USB0DP, 95 PB0/USB0ID, 96 PB1/USB0VBUS, 97 PC3/TDO/SWO, 98 PC2/TDI, 99 PC1/TMS/SWDIO, 100 PC0/TCK/SWCLK, 102 PQ4, 103 PP2, 104 PP3, 105 PP4, 106 PP5, 107 PN0, 108 PN1, 109 PN2, 110 PN3, 111 PN4, 112 PN5, 116 PJ0, 117 PJ1, 118 PP0/C2+, 119 PP1/C2-, 120 PB5/AIN11, 121 PB4/AIN10, 123 PE4/AIN9, 124 PE5/AIN8, 125 PD4/AIN7, 126 PD5/AIN6, 127 PD6/AIN5, 128 PD7/AIN4
part B pins: 7 VDD, 8 VDDA, 9 VREFA+, 10 GNDA, 16 VDD, 17 GND, 26 VDD, 28 VDD, 39 VDD, 47 VDD, 48 GND, 64 ~{WAKE}, 65 ~{HIB}, 66 XOSC0, 67 XOSC1, 68 VBAT, 69 VDD, 70 ~{RST}, 79 VDD, 80 GND, 87 VDDC, 88 OSC0, 89 OSC1, 90 VDD, 101 VDD, 113 VDD, 114 GND, 115 VDDC, 122 VDD
part C pins: 51 VDD, 52 VDD, 53 EN0RXIN, 54 EN0RXIP, 55 GND, 56 EN0TXON, 57 EN0TXOP, 58 GND, 59 RBIAS

## TPS62177DQCR
designator IC?
IC REG BCK SYNC 3.3V 0.5A 10WSON; Manufacturer: Texas Instruments; Max Input Voltage: 28V; Output Current: 500mA; Min Input Voltage: 4.75V; Nominal Supply Current: 4.8uA; Number of Outputs: 1; Switching Frequency: 1MHz; Synchronous Rectifier: Yes; Max Output Voltage: 6V; Topology: Buck-Boost; Supplier 1: Digi-Key; Manufacturer Part Number: TPS62177DQCR; Stock 1: 1099; Pricing 1: 1=1.58, 10=1.416, 100=1.104, 500=0.91196, 1000=0.71997 (USD); Mount: Surface Mount; Number of Pins: 10; Min Operating Temperature: -40°C; Max Operating Temperature: 85°C; Output Voltage: 3.3V; Packaging: Tape and Reel; Package Quantity: 3000; Min Supply Voltage: 4.75V; Max Output Current: 500mA; Min Output Voltage: 3.3V; Quiescent Current: 4.8uA; Operating Supply Voltage: 28V; REACH SVHC: No SVHC; Lead Free: Lead Free; ComponentLink1URL: https://datasheet.ciiva.com/12225/slvsb35-213378-12225446.pdf; ComponentLink1Description: https://datasheet.ciiva.com/12225/slvsb35-213378-12225446.pdf; ComponentLink2URL: https://datasheet.ciiva.com/15082/tps62177-15082070.pdf; ComponentLink2Description: https://datasheet.ciiva.com/15082/tps62177-15082070.pdf
footprint SON50P200X80_HS-11N (SON, 10-Leads, Body 3.00x2.00mm, Pitch 0.50mm, Thermal Pad 2.40x0.79mm, IPC Medium Density)
pins: 1 PGND (in), 2 VIN (in), 3 EN (in), 4 NC (in), 5 FB (in), 6 AGND (in), 7 PG (in), 8 SLEEP (in), 9 SW (in), 10 VOS (in)

## VOS618A-3T
designator U?
OPTOISOLATOR 3.75KV TRANS 4-SSOP; Manufacturer: Vishay Semiconductors; Max Power Dissipation: 170mW; Forward Current: 50mA; Collector Emitter Voltage (VCEO): 80V; Collector Emitter Saturation Voltage: 400mV; Current Transfer Ratio: 200%; Max Input Current: 60mA; Supplier 1: Digi-Key; Manufacturer Part Number: VOS618A-3T; Stock 1: 8994; Pricing 1: 1=0.99, 10=0.77, 25=0.638, 100=0.55, 250=0.484, 500=0.418, 1000=0.33 (USD); Case/Package: SSOP; Number of Pins: 4; Min Operating Temperature: -55°C; Max Operating Temperature: 110°C; Packaging: Tape and Reel; Max Collector Current: 50mA; Radiation Hardening: No; ComponentLink1URL: https://datasheet.ciiva.com/2087/vos618a-2087389.pdf; ComponentLink1Description: https://datasheet.ciiva.com/2087/vos618a-2087389.pdf
simulation model VOS618A (Library of DC Input Phototransistor Output Optocoupler VOS618A)
footprint VOS618A (SOP, 4-Leads, Body 2.60x4.40mm, Pitch 1.27mm, IPC Medium Density)
pins: 1 A (in), 2 C (in), 3 E (in), 4 C (in)

## XT-60
designator J?
XT-60 Power Connector; Current_Max: 60; ComponentLink1Description: Mechanical; ComponentLink1URL: https://cdn.sparkfun.com/datasheets/Prototyping/xt60.pdf
footprint XTC60PW-M (Male right angle xt60)
simulation model Battery (48 Volt Battery)
pins: 1 V+ (power), 2 V- (power)